# EAGLE library part SLA7073MPRT (library SLA7073MPRT)
IC MOTOR DRIVER PAR 23SLA Source: Datasheet <http://www.semicon.sanken-ele.co.jp/sk_content/sla7070mprt_ds_en.pdf>
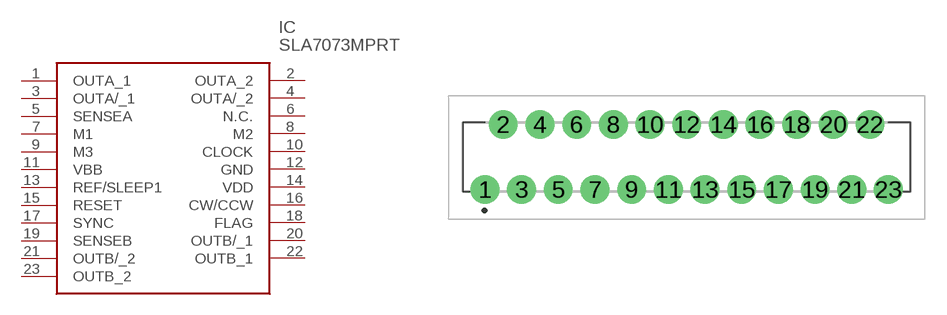
[diagram p0: symbol with the pads of SLA7073MPRT; footprint SLA7073MPRT]

Designator prefix IC

## SLA7073MPRT (Description: IC MOTOR DRIVER PAR 23SLA; Height: 16mm; Manufacturer_Name: SANKEN ELECTRIC CO.; Manufacturer_Part_Number: SLA7073MPRT)  [SLA7073MPRT]
1  OUTA_1
2  OUTA_2
3  OUTA/_1
4  OUTA/_2
5  SENSEA
6  N.C.  nc
7  M1
8  M2
9  M3
10  CLOCK
11  VBB
12  GND
13  REF/SLEEP1
14  VDD
15  RESET
16  CW/CCW
17  SYNC
18  FLAG
19  SENSEB
20  OUTB/_1
21  OUTB/_2
22  OUTB_1
23  OUTB_2

## Footprint SLA7073MPRT (pad centres in mm)
ZIP23 with Fin[SLA23Pin]
drill 1.33 pad 1.995: 1 -13.97,-2.25; 2 -12.7,2.25; 3 -11.43,-2.25; 4 -10.16,2.25; 5 -8.89,-2.25; 6 -7.62,2.25; 7 -6.35,-2.25; 8 -5.08,2.25; 9 -3.81,-2.25; 10 -2.54,2.25; 11 -1.27,-2.25; 12 0,2.25; 13 1.27,-2.25; 14 2.54,2.25; 15 3.81,-2.25; 16 5.08,2.25; 17 6.35,-2.25; 18 7.62,2.25; 19 8.89,-2.25; 20 10.16,2.25; 21 11.43,-2.25; 22 12.7,2.25; 23 13.97,-2.25